# Altium footprint library Footprints.PcbLib: 24 footprints (part 1 of 2)
Each footprint in its own frame and in the unit in brackets; x right, y up, seen from the top. Pads: shape width x height; smd on the part's side, far side on the other; paste and mask are expansions set on the pad; w line width, h text height; cw(c..) or ccw(c..) is an arc to the next point about the centre after c.
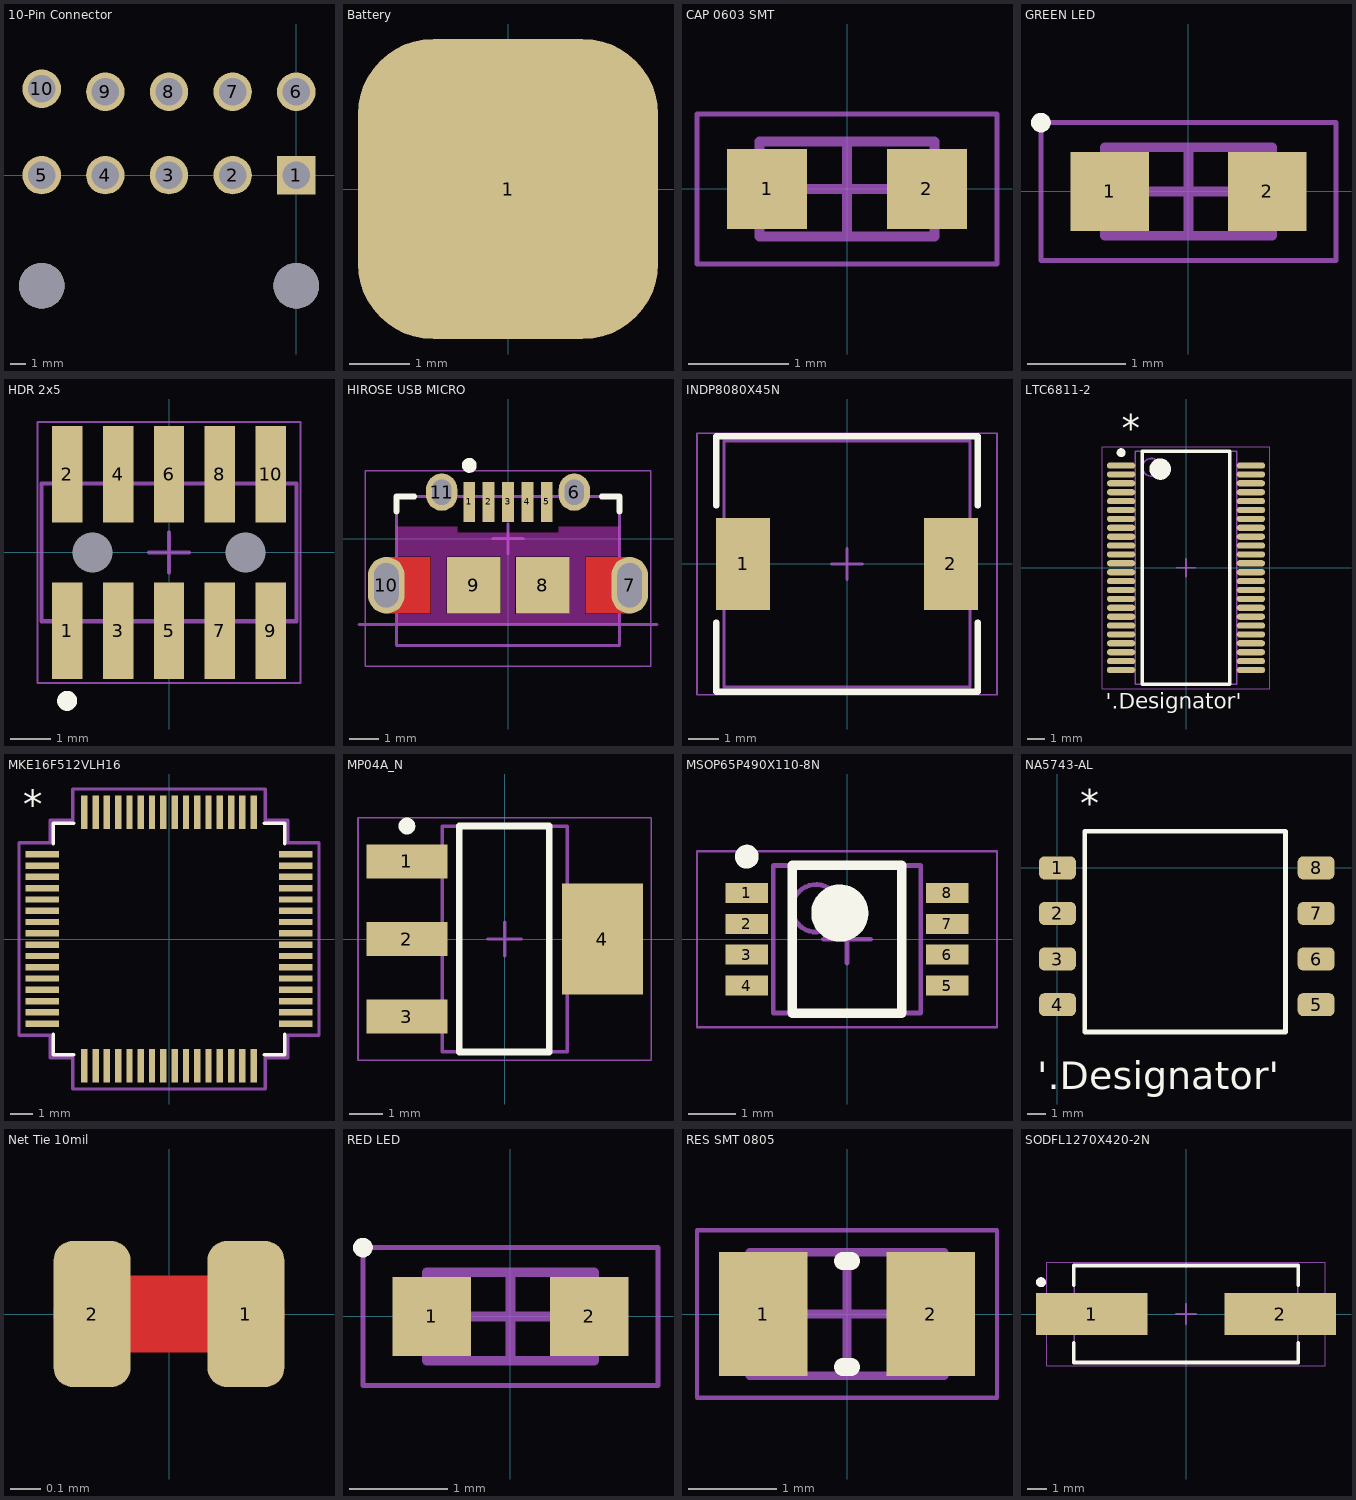
[diagram p0: the footprints below, top view; thin cyan lines are the x and y axes]

## 10-Pin Connector [mm] "Molex Minifit 10 Pin"
pads (12):
  rect 2.54x2.54 hole 1.8: 1(0,0)
  round 2.54 hole 1.8: 2(-4.2,0) 3(-8.4,0) 4(-12.6,0) 5(-16.8,0) 6(0,5.5) 7(-4.2,5.5) 8(-8.4,5.5) 9(-12.6,5.5) 10(-16.8,5.7)
  round 3 hole 3 unplated: ""(-16.8,-7.3) ""(0,-7.3)
3D body: height 6.35, standoff -6.35, extent -2.286,3.302 -2.286,3.302
3D body "039300100.stp": height 11.4, standoff -3.6, extent -19.5,-13.9 3.1,6.035

## Battery [mm] "Battery Connection"
pads (1):
  rrect50% 5x5 smd: 1(0,0)

## CAP 0603 SMT [mm] "Chip Capacitor, 2-Leads, Body 1.60x0.80mm, IPC Medium Density"
height 0.91
pads (2):
  rect 0.8x0.8 smd: 1(-0.8,0) 2(0.8,0)
Mechanical 13:
  lines w0.1: -0.875,-0.475 0.875,-0.475 0.875,0.475 -0.875,0.475 -0.875,-0.475
Mechanical 15:
  lines w0.05: -1.5,-0.75 1.5,-0.75 1.5,0.75 -1.5,0.75 -1.5,-0.75
  lines w0.1: -0.475,0 0.475,0 ; 0,-0.475 0,0.475
3D body "CAPC1608X09N.step": height 0.91, standoff 0, extent -0.875,-0.475 0.875,0.475

## GREEN LED [mm] "Chip Diode, 2-Leads, Body 1.60x0.80mm, IPC Medium Density"
height 0.28
pads (2):
  rect 0.8x0.8 smd: 1(-0.8,0) 2(0.8,0)
Top Overlay:
  circle w0.1: c-1.5,0.7 r0.05
Mechanical 13:
  lines w0.1: -0.85,-0.45 -0.85,0.45 0.85,0.45 0.85,-0.45 -0.85,-0.45
Mechanical 15:
  lines w0.05: -1.5,-0.7 -1.5,0.7 1.5,0.7 1.5,-0.7 -1.5,-0.7
  lines w0.1: -0.45,0 0.45,0 ; 0,-0.45 0,0.45
3D body "User Library-led0603_GRE.STEP": height 1.1, standoff 0, extent -0.81,-0.4 0.81,0.4

## HDR 2x5 [mm] "Header, 10-Leads, Body 3.43x6.35mm, Pitch 1.27mm"
height 4.55
pads (12):
  rect 0.76x2.4 smd: 1(-2.54,-1.95) 2(-2.54,1.95) 3(-1.27,-1.95) 4(-1.27,1.95) 5(0,-1.95) 6(0,1.95) 7(1.27,-1.95) 8(1.27,1.95) 9(2.54,-1.95) 10(2.54,1.95)
  round 0 hole 1 unplated: MH1(-1.905,0) MH2(1.905,0)
Top Overlay:
  circle w0.25: c-2.54,-3.7 r0.125
Mechanical 13:
  lines w0.1: -3.175,-1.715 -3.175,1.715 3.175,1.715 3.175,-1.715 -3.175,-1.715
Mechanical 15:
  lines w0.05: -3.275,-3.25 3.275,-3.25 3.275,3.25 -3.275,3.25 -3.275,-3.25
  lines w0.1: -0.5,0 0.5,0 ; 0,-0.5 0,0.5
3D body: height 4.55, standoff 0.41, extent -3.175,-1.715 3.175,1.715

## HIROSE USB MICRO [mm] "USB Micro-AB Connector, 5-Leads, Pitch 0.65mm"
height 2.8
pads (11):
  rect 0.4x1.35 smd: 1(-1.3,1.238) 2(-0.65,1.238) 3(0,1.238) 4(0.65,1.238) 5(1.3,1.238)
  oval 1.05x1.25 hole 0.65 slot 0.85 at 90 deg: 6(2.225,1.563) 11(-2.225,1.563)
  oval 1.225x1.9 hole 0.825 slot 1.5 at 90 deg: 7(4.088,-1.562) 10(-4.088,-1.562)
  rect 1.8x1.9 smd: 8(1.163,-1.562) 9(-1.15,-1.562)
Top Layer:
  rectangle: -4.088,-2.512 -2.6,-0.612
  rectangle: 2.6,-2.512 4.088,-0.612
Top Layer keep-out:
  region: 2.59,-0.602 2.06,-0.602 2.06,-2.522 2.59,-2.522
  rectangle: -0.24,-2.522 0.24,-0.602
  rectangle: -2.59,-2.522 -2.06,-0.602
  rectangle: -3.75,-2.887 3.75,-2.522
  rectangle: 1.7,-0.602 3.75,0.413
  rectangle: -1.7,-0.602 1.7,0.213
  rectangle: -3.75,-0.602 -1.7,0.413
Top Overlay:
  circle w0.25: c-1.3,2.463 r0.125
  lines w0.2: -3.75,0.91 -3.75,1.412 -3.149,1.412 ; 3.149,1.412 3.75,1.412 3.75,0.91
Mechanical 3:
  lines w0.1: -5,-2.887 5,-2.887
  text "board edge" at -7.112,-2.921 h0.2
Mechanical 13:
  lines w0.1: -3.75,-3.588 -3.75,1.413 3.75,1.413 3.75,-3.587 -3.75,-3.588
Mechanical 15:
  lines w0.05: -4.8,2.288 4.8,2.288 4.8,-4.286 -4.8,-4.286 -4.8,2.288
  lines w0.1: -0.5,0 0.5,0 ; 0,-0.5 0,0.5
3D body: height 2.83, standoff 2.25, extent -3.05,-4.186 3.05,-3.586
3D body: height 0.25, standoff -0.32, extent -3.05,-4.186 3.05,-3.586
3D body: height 1.79, standoff 0.71, extent 3.5,-4.187 4,-3.586
3D body: height 1.79, standoff 0.71, extent -4,-4.187 -3.5,-3.586
3D body: height 0.25, standoff 0, extent -3.25,0.212 3.25,0.543
3D body: height 2.5, standoff -0.01, extent -3.754,0.213 3.757,1.413
3D body: height 0.55, standoff -0.6, extent 3.603,-1.916 4.373,-1.065
3D body: height 0.55, standoff -0.6, extent -4.373,-1.916 -3.603,-1.066
3D body: height 2.51, standoff -0.01, extent -3.756,-3.587 3.757,0.213
3D body: height 0.25, standoff 0, extent -0.15,0.542 0.157,1.685
3D body: height 0.25, standoff 0, extent 0.5,0.542 0.807,1.685
3D body: height 0.25, standoff 0, extent 1.15,0.542 1.457,1.685
3D body: height 0.25, standoff 0, extent -1.45,0.542 -1.143,1.685
3D body: height 0.25, standoff 0, extent -0.8,0.542 -0.493,1.685
3D body: height 2.25, standoff -0.85, extent -2.379,1.262 2.387,1.863
3D body: height 2.5, standoff 2.25, extent -0.967,1.262 0.972,1.862

## INDP8080X45N [mm] "Precision Wire Wound Inductor, 2-Leads, Body 8.00x8.00mm, IPC Medium Density, DEM8045C"
height 4.5
pads (2):
  rect 1.75x3 smd: 1(-3.375,0) 2(3.375,0)
Top Overlay:
  lines w0.2: -4.25,-1.9 -4.25,-4.15 4.25,-4.15 4.25,-1.9 ; -4.25,1.9 -4.25,4.15 4.25,4.15 4.25,1.9
Mechanical 13:
  lines w0.1: -4,-4 4,-4 4,4 -4,4 -4,-4
Mechanical 15:
  lines w0.05: -4.875,-4.25 4.875,-4.25 4.875,4.25 -4.875,4.25 -4.875,-4.25
  lines w0.1: -0.5,0 0.5,0 ; 0,-0.5 0,0.5
3D body: height 4.5, standoff 0, extent -4,-4 4,4

## LTC6811-2 [mm] "SSOP, 48-Leads, Body 12.80x5.50mm, Pitch 0.50mm, IPC Medium Density"
height 2
pads (48):
  oval 1.6x0.35 smd: 1(-3.65,5.75) 2(-3.65,5.25) 3(-3.65,4.75) 4(-3.65,4.25) 5(-3.65,3.75) 6(-3.65,3.25) 7(-3.65,2.75) 8(-3.65,2.25) 9(-3.65,1.75) 10(-3.65,1.25) 11(-3.65,0.75) 12(-3.65,0.25) 13(-3.65,-0.25) 14(-3.65,-0.75) 15(-3.65,-1.25) 16(-3.65,-1.75) 17(-3.65,-2.25) 18(-3.65,-2.75) 19(-3.65,-3.25) 20(-3.65,-3.75) 21(-3.65,-4.25) 22(-3.65,-4.75) 23(-3.65,-5.25) 24(-3.65,-5.75) 25(3.65,-5.75) 26(3.65,-5.25) 27(3.65,-4.75) 28(3.65,-4.25) 29(3.65,-3.75) 30(3.65,-3.25) 31(3.65,-2.75) 32(3.65,-2.25) 33(3.65,-1.75) 34(3.65,-1.25) 35(3.65,-0.75) 36(3.65,-0.25) 37(3.65,0.25) 38(3.65,0.75) 39(3.65,1.25) 40(3.65,1.75) 41(3.65,2.25) 42(3.65,2.75) 43(3.65,3.25) 44(3.65,3.75) 45(3.65,4.25) 46(3.65,4.75) 47(3.65,5.25) 48(3.65,5.75)
Top Overlay:
  circle w0.25: c-3.65,6.475 r0.125
  circle w0.6: c-1.45,5.55 r0.3
  lines w0.2: -2.45,-6.55 -2.45,6.55 2.45,6.55 2.45,-6.55 -2.45,-6.55
  text "'.Designator'" at -4.525,-8.225 h1.52
  text "*" at -3.6,7.125 h1.52
Mechanical 13:
  circle w0.1: c-1.95,5.65 r0.5
  lines w0.1: -2.85,-6.55 -2.85,6.55 2.85,6.55 2.85,-6.55 -2.85,-6.55
Mechanical 15:
  lines w0.05: -4.7,-6.8 -4.7,6.8 4.7,6.8 4.7,-6.8 -4.7,-6.8
  lines w0.1: -0.5,0 0.5,0 ; 0,-0.5 0,0.5
3D body: height 2, standoff 0.1, extent -2.85,-6.55 2.85,6.55

## MKE16F512VLH16 [mil]
pads (64):
  rect 58x11 smd: 1(-221,147.64) 2(-221,127.95) 3(-221,108.27) 4(-221,88.58) 5(-221,68.9) 6(-221,49.21) 7(-221,29.53) 8(-221,9.84) 9(-221,-9.84) 10(-221,-29.53) 11(-221,-49.21) 12(-221,-68.9) 13(-221,-88.58) 14(-221,-108.27) 15(-221,-127.95) 16(-221,-147.64) 33(221,-147.64) 34(221,-127.95) 35(221,-108.27) 36(221,-88.58) 37(221,-68.9) 38(221,-49.21) 39(221,-29.53) 40(221,-9.84) 41(221,9.84) 42(221,29.53) 43(221,49.21) 44(221,68.9) 45(221,88.58) 46(221,108.27) 47(221,127.95) 48(221,147.64)
  rect 11x58 smd: 17(-147.64,-221) 18(-127.95,-221) 19(-108.27,-221) 20(-88.58,-221) 21(-68.9,-221) 22(-49.21,-221) 23(-29.53,-221) 24(-9.84,-221) 25(9.84,-221) 26(29.53,-221) 27(49.21,-221) 28(68.9,-221) 29(88.58,-221) 30(108.27,-221) 31(127.95,-221) 32(147.64,-221) 49(147.64,221) 50(127.95,221) 51(108.27,221) 52(88.58,221) 53(68.9,221) 54(49.21,221) 55(29.53,221) 56(9.84,221) 57(-9.84,221) 58(-29.53,221) 59(-49.21,221) 60(-68.9,221) 61(-88.58,221) 62(-108.27,221) 63(-127.95,221) 64(-147.64,221)
Top Overlay:
  lines w6: -202,-166.24 -202,-202 -166.24,-202 ; -202,166.24 -202,202 -166.24,202 ; 166.24,-202 202,-202 202,-166.24 ; 166.24,202 202,202 202,166.24
  text "*" at -220,210 h50
Mechanical 13:
Mechanical 15:
  lines w6: -261.5,-167.64 -261.5,167.64 -207,167.64 -207,207 -167.64,207 -167.64,261.5 167.64,261.5 167.64,207 207,207 207,167.64 261.5,167.64 261.5,-167.64 207,-167.64 207,-207 167.64,-207 167.64,-261.5 -167.64,-261.5 -167.64,-207 -207,-207 -207,-167.64 -261.5,-167.64
3D body "User Library-LQFP64-1.STEP": height 61.42, standoff 0, extent -236.22,-236.72 236.23,235.72

## MP04A_N [mm] "SOT223, 4-Leads, Body 6.5x3.5mm, Pitch 2.3mm, Lead Span 7mm, IPC Medium Density"
height 1.8
pads (4):
  rect 2.4x1 smd: 1(-2.9,2.3) 2(-2.9,0) 3(-2.9,-2.3)
  rect 2.4x3.3 smd: 4(2.9,0)
Top Overlay:
  circle w0.25: c-2.9,3.35 r0.125
  lines w0.2: -1.346,-3.35 1.321,-3.35 1.321,3.35 -1.346,3.35 -1.346,-3.35
Mechanical 13:
  lines w0.1: -1.855,-3.35 1.855,-3.35 1.855,3.35 -1.855,3.35 -1.855,-3.35
Mechanical 15:
  lines w0.05: -4.35,-3.6 4.35,-3.6 4.35,3.6 -4.35,3.6 -4.35,-3.6
  lines w0.1: -0.5,0 0.5,0 ; 0,-0.5 0,0.5
3D body: height 1.8, standoff 0.03, extent -1.855,-3.35 1.855,3.35

## MSOP65P490X110-8N [mm] "MSOP, 8-Leads, Body 3.00x3.00mm, Pitch 0.65mm, IPC Medium Density, LTC2053, AD8495, LT6100HMS8PBF"
height 1.1
pads (8):
  rect 0.889x0.42 smd: 1(-2.105,0.975) 2(-2.105,0.325) 3(-2.105,-0.325) 4(-2.105,-0.975) 5(2.105,-0.975) 6(2.105,-0.325) 7(2.105,0.325) 8(2.105,0.975)
Top Overlay:
  circle w0.6: c-0.15,0.55 r0.3
  circle w0.25: c-2.105,1.735 r0.125
  lines w0.2: -1.15,-1.55 1.15,-1.55 1.15,1.55 -1.15,1.55 -1.15,-1.55
Mechanical 13:
  circle w0.1: c-0.65,0.65 r0.5
  lines w0.1: -1.55,-1.55 1.55,-1.55 1.55,1.55 -1.55,1.55 -1.55,-1.55
Mechanical 15:
  lines w0.05: -3.15,-1.85 3.15,-1.85 3.15,1.85 -3.15,1.85 -3.15,-1.85
  lines w0.1: -0.5,0 0.5,0 ; 0,-0.5 0,0.5
3D body: height 1.1, standoff 0.05, extent -1.55,-1.55 1.55,1.55

## NA5743-AL [mm]
pads (8):
  rrect50% 2.03x1.27 smd: 1(0,0) 2(0,-2.5) 3(0,-5) 4(0,-7.5) 5(14.18,-7.5) 6(14.18,-5) 7(14.18,-2.5) 8(14.18,0)
Top Overlay:
  lines w0.254: 1.5,-9 12.5,-9 12.5,2 1.5,2 1.5,-9
  text "*" at 1.25,2.8 h1.52
  text "'.Designator'" at -1.1,-12.125 h1.52
3D body "Coilcraft-NA5743-AL.STEP": height 11.01, standoff 0.01, extent -0.52,-10.1 14.72,2.6

## Net Tie 10mil [mil]
pads (2):
  rrect50% 10x19 smd: 1(10,0) 2(-10,0)
Top Layer:
  lines w10: -10,0 10,0

## RED LED [mm] "Chip Diode, 2-Leads, Body 1.60x0.80mm, IPC Medium Density"
height 0.28
pads (2):
  rect 0.8x0.8 smd: 1(-0.8,0) 2(0.8,0)
Top Overlay:
  circle w0.1: c-1.5,0.7 r0.05
Mechanical 13:
  lines w0.1: -0.85,-0.45 0.85,-0.45 0.85,0.45 -0.85,0.45 -0.85,-0.45
Mechanical 15:
  lines w0.05: -1.5,-0.7 1.5,-0.7 1.5,0.7 -1.5,0.7 -1.5,-0.7
  lines w0.1: -0.45,0 0.45,0 ; 0,-0.45 0,0.45
3D body "User Library-LED_0603_R.STEP": height 0.6, standoff 0, extent -0.8,-0.4 0.8,0.4

## RES SMT 0805 [mm] "Chip Resistor, 2-Leads, Body 2.05x1.25mm, IPC Medium Density"
height 0.5
pads (2):
  rect 1x1.4 smd: 1(-0.95,0) 2(0.95,0)
Top Overlay:
  lines w0.2: -0.05,-0.6 0.05,-0.6 ; -0.05,0.6 0.05,0.6
Mechanical 13:
  lines w0.1: -1.1,-0.7 1.1,-0.7 1.1,0.7 -1.1,0.7 -1.1,-0.7
Mechanical 15:
  lines w0.05: -1.7,-0.95 1.7,-0.95 1.7,0.95 -1.7,0.95 -1.7,-0.95
  lines w0.1: -0.5,0 0.5,0 ; 0,-0.5 0,0.5
3D body: height 0.5, standoff 0, extent 0.8,-0.7 1.1,0.7
3D body: height 0.5, standoff 0, extent -1.1,-0.7 -0.8,0.7
3D body: height 0.5, standoff 0, extent -0.8,-0.7 0.8,0.7

## SODFL1270X420-2N [mm] "SODFL, 2-Leads, Body 4.70x12.70mm, IPC Medium Density, ABLS-16.000MHZ-B4-T smd crystal"
height 4.2
pads (2):
  rect 5.6x2.1 smd: 1(-4.75,0) 2(4.75,0)
Top Overlay:
  circle w0.25: c-7.3,1.6 r0.125
  lines w0.2: -5.65,-1.45 -5.65,-2.45 5.65,-2.45 5.65,-1.45 ; -5.65,1.45 -5.65,2.45 5.65,2.45 5.65,1.45
Mechanical 13:
  lines w0.1: -5.625,-2.425 5.625,-2.425 5.625,2.425 -5.625,2.425 -5.625,-2.425
Mechanical 15:
  lines w0.05: -7,-2.6 7,-2.6 7,2.6 -7,2.6 -7,-2.6
  lines w0.1: -0.5,0 0.5,0 ; 0,-0.5 0,0.5
3D body: height 4.2, standoff 0, extent -5.625,-2.425 5.625,2.425